# Altium footprint library SNES TST1.PcbLib: 28 footprints (part 1 of 2)
Each footprint in its own frame and in the unit in brackets; x right, y up, seen from the top. Pads: shape width x height; smd on the part's side, far side on the other; paste and mask are expansions set on the pad; w line width, h text height; cw(c..) or ccw(c..) is an arc to the next point about the centre after c.
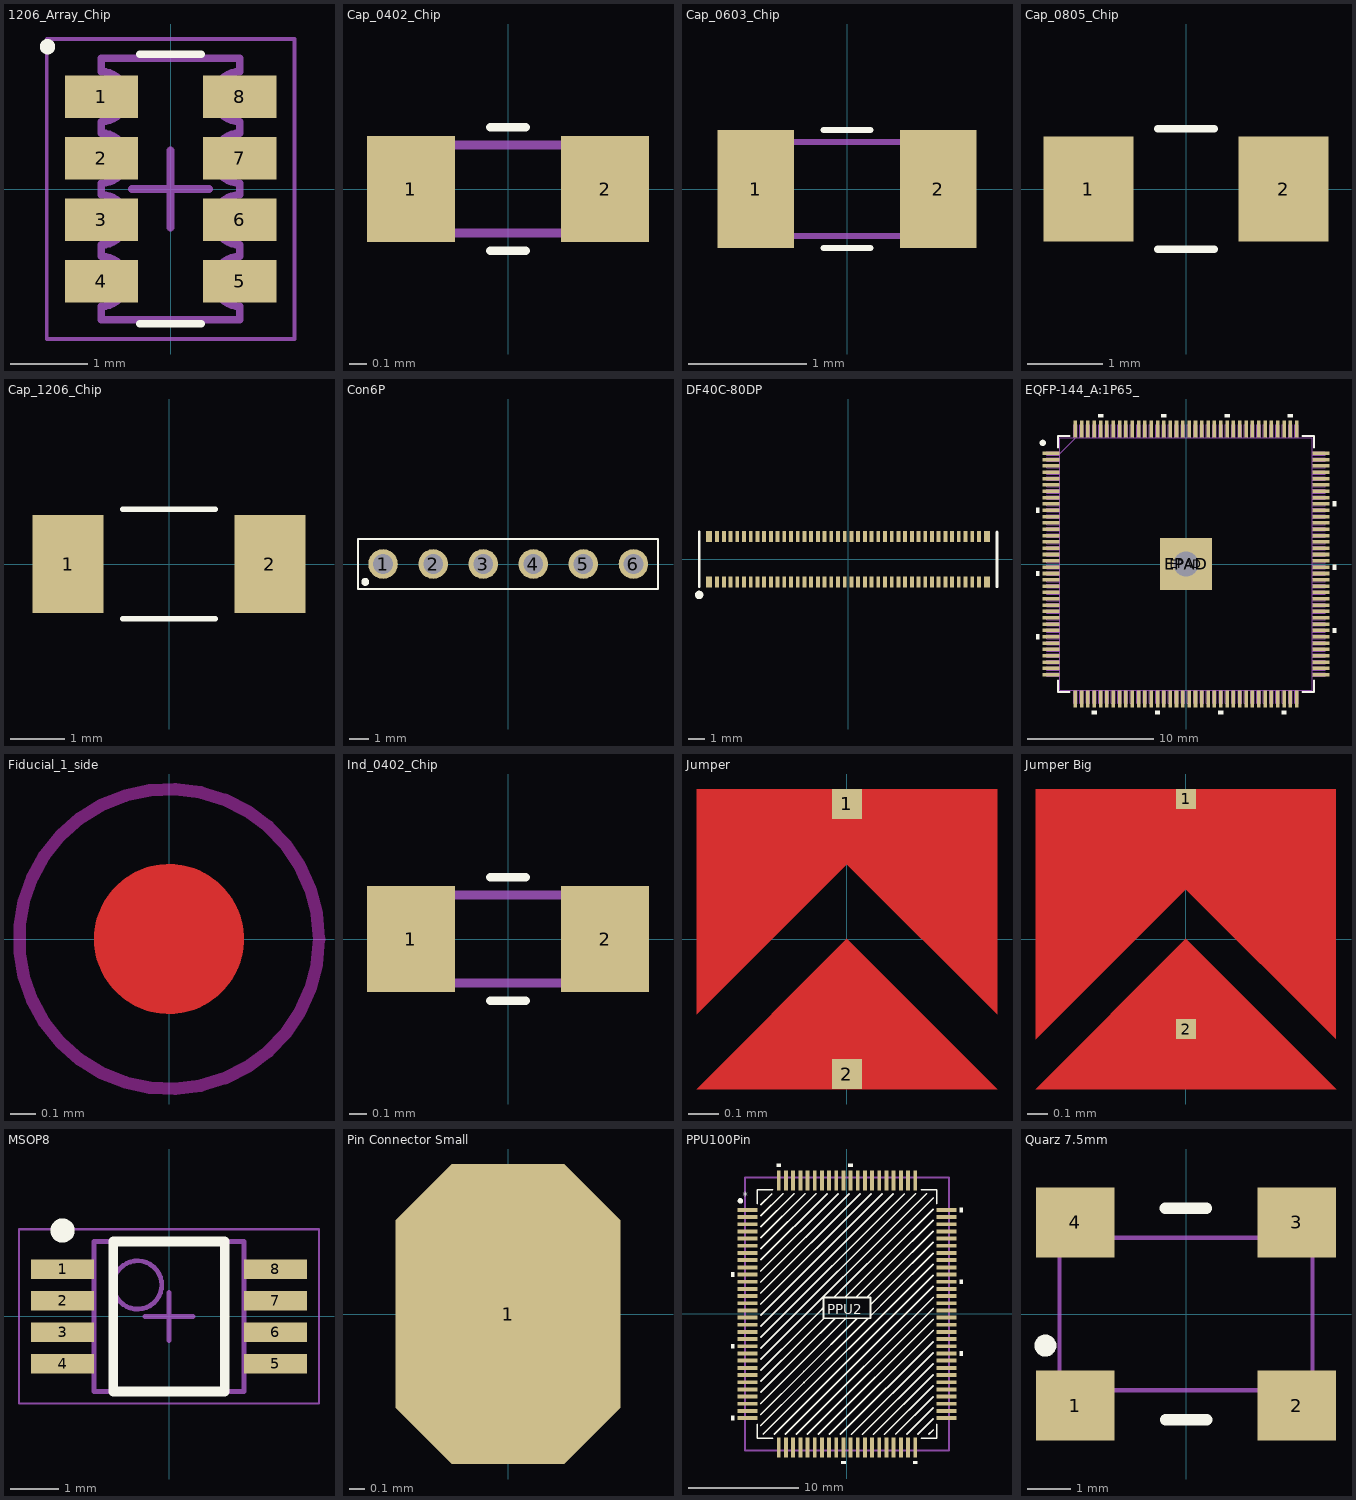
[diagram p0: the footprints below, top view; thin cyan lines are the x and y axes]

## 1206_Array_Chip [mm]
pads (8):
  rect 0.95x0.55 smd: 1(-0.9,1.2) 2(-0.9,0.4) 3(-0.9,-0.4) 4(-0.9,-1.2) 5(0.9,-1.2) 6(0.9,-0.4) 7(0.9,0.4) 8(0.9,1.2)
Top Overlay:
  circle w0.1: c-1.6,1.85 r0.05
  lines w0.1: -0.4,-1.75 0.4,-1.75 ; -0.4,1.75 0.4,1.75
Top Designator:
  text ".Designator" at 2.967,0.2 h0.6
Mechanical 13:
  lines w0.1: -0.9,-1.7 0.9,-1.7 0.9,-1.525 cw(c0.9,-1.2) 0.9,-0.875 0.9,-0.725 cw(c0.9,-0.4) 0.9,-0.075 0.9,0.075 cw(c0.9,0.4) 0.9,0.725 0.9,0.875 cw(c0.9,1.2) 0.9,1.525 0.9,1.7 -0.9,1.7 -0.9,1.525 cw(c-0.9,1.2) -0.9,0.875 -0.9,0.725 cw(c-0.9,0.4) -0.9,0.075 -0.9,-0.075 cw(c-0.9,-0.4) -0.9,-0.725 -0.9,-0.875 cw(c-0.9,-1.2) -0.9,-1.525 -0.9,-1.7
Mechanical 15:
  lines w0.05: -1.61,-1.95 1.61,-1.95 1.61,1.95 -1.61,1.95 -1.61,-1.95
  lines w0.1: -0.5,0 0.5,0 ; 0,-0.5 0,0.5
3D body "1206_Array_Chip.step": height 0.6, standoff 0, extent -0.95,-1.7 0.95,1.7

## Cap_0402_Chip [mm]
pads (2):
  rect 0.5x0.6 smd: 1(-0.55,0) 2(0.55,0)
Top Overlay:
  lines w0.05: -0.1,-0.35 0.1,-0.35 ; -0.1,0.35 0.1,0.35
Top Designator:
  text ".Designator" at 2.999,0.2 h0.6
Mechanical 15:
  lines w0.05: -0.5,-0.25 0.5,-0.25 0.5,0.25 -0.5,0.25 -0.5,-0.25
3D body "CAPC1005X06N.step": height 0.55, standoff 0, extent -0.55,-0.3 0.55,0.3

## Cap_0603_Chip [mm]
pads (2):
  rect 0.65x1 smd: 1(-0.775,0) 2(0.775,0)
Top Overlay:
  lines w0.05: -0.2,-0.5 0.2,-0.5 ; -0.2,0.5 0.2,0.5
Top Designator:
  text ".Designator" at -2.999,-0.2 h0.6
Mechanical 15:
  lines w0.05: -0.8,-0.4 -0.8,0.4 0.8,0.4 0.8,-0.4 -0.8,-0.4
3D body "CAPC1608X09N.step": height 0.9, standoff 0, extent -0.8,-0.475 0.8,0.475

## Cap_0805_Chip [mm]
pads (2):
  rect 1.2x1.4 smd: 1(-1.3,0) 2(1.3,0)
Top Overlay:
  lines w0.1: -0.375,-0.8 0.375,-0.8 ; -0.375,0.8 0.375,0.8
Top Designator:
  text ".Designator" at 2.999,0.2 h0.6
3D body "CAPC2012X14N.step": height 1.35, standoff 0, extent -1.05,-0.675 1.05,0.675

## Cap_1206_Chip [mm]
pads (2):
  rect 1.3x1.8 smd: 1(-1.85,0) 2(1.85,0)
Top Overlay:
  lines w0.1: -0.85,-1 0.85,-1 ; -0.85,1 0.85,1
Top Designator:
  text ".Designator" at 2.999,0.2 h0.6
3D body "CAPC3216X14N.step": height 1.4, standoff 0, extent -1.675,-0.875 1.675,0.875

## Con6P [mm]
pads (6):
  round 1.5 hole 1: 1(-6.35,0) 2(-3.81,0) 3(-1.27,0) 4(1.27,0) 5(3.81,0) 6(6.35,0)
Top Overlay:
  circle w0.2: c-7.255,-0.905 r0.1
  lines w0.1: -7.62,-1.27 7.595,-1.27 7.595,1.27 -7.62,1.27 -7.62,-1.27

## DF40C-80DP [mm]
pads (84):
  rect 0.35x0.66 smd: 0(-8.275,-1.355) 0(-8.275,1.355) 0(8.275,-1.355) 0(8.275,1.355)
  rect 0.23x0.66 smd: 1(-7.8,-1.355) 2(-7.8,1.355) 3(-7.4,-1.355) 4(-7.4,1.355) 5(-7,-1.355) 6(-7,1.355) 7(-6.6,-1.355) 8(-6.6,1.355) 9(-6.2,-1.355) 10(-6.2,1.355) 11(-5.8,-1.355) 12(-5.8,1.355) 13(-5.4,-1.355) 14(-5.4,1.355) 15(-5,-1.355) 16(-5,1.355) 17(-4.6,-1.355) 18(-4.6,1.355) 19(-4.2,-1.355) 20(-4.2,1.355) 21(-3.8,-1.355) 22(-3.8,1.355) 23(-3.4,-1.355) 24(-3.4,1.355) 25(-3,-1.355) 26(-3,1.355) 27(-2.6,-1.355) 28(-2.6,1.355) 29(-2.2,-1.355) 30(-2.2,1.355) 31(-1.8,-1.355) 32(-1.8,1.355) 33(-1.4,-1.355) 34(-1.4,1.355) 35(-1,-1.355) 36(-1,1.355) 37(-0.6,-1.355) 38(-0.6,1.355) 39(-0.2,-1.355) 40(-0.2,1.355) 41(0.2,-1.355) 42(0.2,1.355) 43(0.6,-1.355) 44(0.6,1.355) 45(1,-1.355) 46(1,1.355) 47(1.4,-1.355) 48(1.4,1.355) 49(1.8,-1.355) 50(1.8,1.355) 51(2.2,-1.355) 52(2.2,1.355) 53(2.6,-1.355) 54(2.6,1.355) 55(3,-1.355) 56(3,1.355) 57(3.4,-1.355) 58(3.4,1.355) 59(3.8,-1.355) 60(3.8,1.355) 61(4.2,-1.355) 62(4.2,1.355) 63(4.6,-1.355) 64(4.6,1.355) 65(5,-1.355) 66(5,1.355) 67(5.4,-1.355) 68(5.4,1.355) 69(5.8,-1.355) 70(5.8,1.355) 71(6.2,-1.355) 72(6.2,1.355) 73(6.6,-1.355) 74(6.6,1.355) 75(7,-1.355) 76(7,1.355) 77(7.4,-1.355) 78(7.4,1.355) 79(7.8,-1.355) 80(7.8,1.355)
Top Overlay:
  circle w0.25: c-8.875,-2.125 r0.125
  lines w0.152: -8.875,-1.625 -8.875,1.625 ; 8.875,-1.625 8.875,1.625
Top Designator:
  text ".Designator" at 2.912,-0.12 h0.6
3D body "DF40C-80DP.stp": height 1.09, standoff -0.05, extent -8.76,-1.47 8.76,1.5

## EQFP-144_A:1P65_ [mm]
pads (146):
  rect 1.353x0.279 smd: 1(-10.672,8.75) 2(-10.672,8.25) 3(-10.672,7.75) 4(-10.672,7.25) 5(-10.672,6.75) 6(-10.672,6.25) 7(-10.672,5.75) 8(-10.672,5.25) 9(-10.672,4.75) 10(-10.672,4.25) 11(-10.672,3.75) 12(-10.672,3.25) 13(-10.672,2.75) 14(-10.672,2.25) 15(-10.672,1.75) 16(-10.672,1.25) 17(-10.672,0.75) 18(-10.672,0.25) 19(-10.672,-0.25) 20(-10.672,-0.75) 21(-10.672,-1.25) 22(-10.672,-1.75) 23(-10.672,-2.25) 24(-10.672,-2.75) 25(-10.672,-3.25) 26(-10.672,-3.75) 27(-10.672,-4.25) 28(-10.672,-4.75) 29(-10.672,-5.25) 30(-10.672,-5.75) 31(-10.672,-6.25) 32(-10.672,-6.75) 33(-10.672,-7.25) 34(-10.672,-7.75) 35(-10.672,-8.25) 36(-10.672,-8.75) 73(10.672,-8.75) 74(10.672,-8.25) 75(10.672,-7.75) 76(10.672,-7.25) 77(10.672,-6.75) 78(10.672,-6.25) 79(10.672,-5.75) 80(10.672,-5.25) 81(10.672,-4.75) 82(10.672,-4.25) 83(10.672,-3.75) 84(10.672,-3.25) 85(10.672,-2.75) 86(10.672,-2.25) 87(10.672,-1.75) 88(10.672,-1.25) 89(10.672,-0.75) 90(10.672,-0.25) 91(10.672,0.25) 92(10.672,0.75) 93(10.672,1.25) 94(10.672,1.75) 95(10.672,2.25) 96(10.672,2.75) 97(10.672,3.25) 98(10.672,3.75) 99(10.672,4.25) 100(10.672,4.75) 101(10.672,5.25) 102(10.672,5.75) 103(10.672,6.25) 104(10.672,6.75) 105(10.672,7.25) 106(10.672,7.75) 107(10.672,8.25) 108(10.672,8.75)
  rect 0.279x1.353 smd: 37(-8.75,-10.672) 38(-8.25,-10.672) 39(-7.75,-10.672) 40(-7.25,-10.672) 41(-6.75,-10.672) 42(-6.25,-10.672) 43(-5.75,-10.672) 44(-5.25,-10.672) 45(-4.75,-10.672) 46(-4.25,-10.672) 47(-3.75,-10.672) 48(-3.25,-10.672) 49(-2.75,-10.672) 50(-2.25,-10.672) 51(-1.75,-10.672) 52(-1.25,-10.672) 53(-0.75,-10.672) 54(-0.25,-10.672) 55(0.25,-10.672) 56(0.75,-10.672) 57(1.25,-10.672) 58(1.75,-10.672) 59(2.25,-10.672) 60(2.75,-10.672) 61(3.25,-10.672) 62(3.75,-10.672) 63(4.25,-10.672) 64(4.75,-10.672) 65(5.25,-10.672) 66(5.75,-10.672) 67(6.25,-10.672) 68(6.75,-10.672) 69(7.25,-10.672) 70(7.75,-10.672) 71(8.25,-10.672) 72(8.75,-10.672) 109(8.75,10.672) 110(8.25,10.672) 111(7.75,10.672) 112(7.25,10.672) 113(6.75,10.672) 114(6.25,10.672) 115(5.75,10.672) 116(5.25,10.672) 117(4.75,10.672) 118(4.25,10.672) 119(3.75,10.672) 120(3.25,10.672) 121(2.75,10.672) 122(2.25,10.672) 123(1.75,10.672) 124(1.25,10.672) 125(0.75,10.672) 126(0.25,10.672) 127(-0.25,10.672) 128(-0.75,10.672) 129(-1.25,10.672) 130(-1.75,10.672) 131(-2.25,10.672) 132(-2.75,10.672) 133(-3.25,10.672) 134(-3.75,10.672) 135(-4.25,10.672) 136(-4.75,10.672) 137(-5.25,10.672) 138(-5.75,10.672) 139(-6.25,10.672) 140(-6.75,10.672) 141(-7.25,10.672) 142(-7.75,10.672) 143(-8.25,10.672) 144(-8.75,10.672)
  rect 4.14x4.14 smd: EPAD(0,0)
  round 3 hole 2: EPAD(0,0)
Top Overlay:
  circle w0.25: c-11.325,9.575 r0.125
  region: 11.602,4.941 11.856,4.941 11.856,4.56 11.602,4.56
  region: 8.441,11.602 8.06,11.602 8.06,11.856 8.441,11.856
  region: 3.441,11.602 3.06,11.602 3.06,11.856 3.441,11.856
  region: 11.602,-0.059 11.856,-0.059 11.856,-0.44 11.602,-0.44
  region: 11.602,-5.059 11.856,-5.059 11.856,-5.44 11.602,-5.44
  region: 7.94,-11.602 7.559,-11.602 7.559,-11.856 7.94,-11.856
  region: 2.94,-11.602 2.559,-11.602 2.559,-11.856 2.94,-11.856
  region: -1.559,11.602 -1.94,11.602 -1.94,11.856 -1.559,11.856
  region: -6.559,11.602 -6.94,11.602 -6.94,11.856 -6.559,11.856
  region: -11.602,4.44 -11.856,4.44 -11.856,4.059 -11.602,4.059
  region: -2.06,-11.602 -2.441,-11.602 -2.441,-11.856 -2.06,-11.856
  region: -7.06,-11.602 -7.441,-11.602 -7.441,-11.856 -7.06,-11.856
  region: -11.602,-0.56 -11.856,-0.56 -11.856,-0.941 -11.602,-0.941
  region: -11.602,-5.56 -11.856,-5.56 -11.856,-5.941 -11.602,-5.941
  lines w0.152: -10.122,-9.222 -10.122,-10.122 -9.222,-10.122 ; -10.122,9.222 -10.122,10.122 -9.222,10.122 ; 9.222,-10.122 10.122,-10.122 10.122,-9.222 ; 9.222,10.122 10.122,10.122 10.122,9.222
Top Paste:
  region: 1.97,1.97 0.79,1.97 0.79,0.79 1.97,0.79
  region: 1.97,-0.79 0.79,-0.79 0.79,-1.97 1.97,-1.97
  region: 1.97,0.59 0.79,0.59 0.79,-0.59 1.97,-0.59
  region: 0.59,1.97 -0.59,1.97 -0.59,0.79 0.59,0.79
  region: -0.79,1.97 -1.97,1.97 -1.97,0.79 -0.79,0.79
  region: 0.59,0.59 -0.59,0.59 -0.59,-0.59 0.59,-0.59
  region: -0.79,-0.79 -1.97,-0.79 -1.97,-1.97 -0.79,-1.97
  region: 0.59,-0.79 -0.59,-0.79 -0.59,-1.97 0.59,-1.97
  region: -0.79,0.59 -1.97,0.59 -1.97,-0.59 -0.79,-0.59
Top Designator:
  text ".Designator" at -2.999,-0.2 h0.6
Mechanical 13:
  drawing of 581 lines, arcs and shapes, not listed
  text "*" at -9.931,8.365 h1.27
3D body: height 0.25, standoff 0, extent 0,0 0.254,0.254
3D body "EQFP-144_A1P65_D24P00_INT-M.step": height 1.65, standoff 0, extent -10.998,-10.998 10.998,10.998

## Fiducial_1_side [mm]
Top Layer:
  circle w0.3: c0,0 r0.15
Top Layer keep-out:
  circle w0.05: c0,0 r0.6

## Ind_0402_Chip [mm]
pads (2):
  rect 0.5x0.6 smd: 1(-0.55,0) 2(0.55,0)
Top Overlay:
  lines w0.05: -0.1,-0.35 0.1,-0.35 ; -0.1,0.35 0.1,0.35
Top Designator:
  text ".Designator" at -2.999,-0.2 h0.6
Mechanical 15:
  lines w0.05: -0.5,-0.25 0.5,-0.25 0.5,0.25 -0.5,0.25 -0.5,-0.25
3D body "INDC1005X06N.step": height 0.55, standoff 0, extent -0.55,-0.3 0.55,0.3

## Jumper [mm]
pads (2):
  rect 0.1x0.1 smd: 1(0,0.45) 2(0,-0.45)
Top Layer:
  region: -0.5,-0.25 -0.5,0.5 0.5,0.5 0.5,-0.25 0,0.25
  region: -0.5,-0.5 0.5,-0.5 0,0
Top Designator:
  text ".Designator" at 2.999,0.2 h0.6

## Jumper Big [mm]
pads (2):
  rect 0.1x0.1 smd: 1(0,0.7) 2(0,-0.45)
Top Layer:
  region: -0.75,-0.5 -0.75,0.75 0.75,0.75 0.75,-0.5 0,0.25
  region: -0.75,-0.75 0.75,-0.75 0,0
Top Designator:
  text ".Designator" at -2.999,-0.175 h0.6

## MSOP8 [mm]
pads (8):
  rect 1.3x0.4 smd: 1(-2.2,0.975) 2(-2.2,0.325) 3(-2.2,-0.325) 4(-2.2,-0.975) 5(2.2,-0.975) 6(2.2,-0.325) 7(2.2,0.325) 8(2.2,0.975)
Top Overlay:
  circle w0.25: c-2.2,1.775 r0.125
  lines w0.2: -1.15,-1.55 1.15,-1.55 1.15,1.55 -1.15,1.55 -1.15,-1.55
Top Designator:
  text ".Designator" at -2.999,-0.1 h0.6
Mechanical 13:
  circle w0.1: c-0.65,0.65 r0.5
  lines w0.1: -1.55,-1.55 1.55,-1.55 1.55,1.55 -1.55,1.55 -1.55,-1.55
Mechanical 15:
  lines w0.05: -3.1,-1.8 3.1,-1.8 3.1,1.8 -3.1,1.8 -3.1,-1.8
  lines w0.1: -0.5,0 0.5,0 ; 0,-0.5 0,0.5
3D body "MSOP8.step": height 1.07, standoff 0, extent -2.44,-1.55 2.44,1.55

## Pin Connector Small [mm]
pads (1):
  oct 1.5x2 smd: 1(0,0)

## PPU100Pin [mm]
pads (100):
  rect 1.8x0.35 smd: 1(-9,9.425) 2(-9,8.775) 3(-9,8.125) 4(-9,7.475) 5(-9,6.825) 6(-9,6.175) 7(-9,5.525) 8(-9,4.875) 9(-9,4.225) 10(-9,3.575) 11(-9,2.925) 12(-9,2.275) 13(-9,1.625) 14(-9,0.975) 15(-9,0.325) 16(-9,-0.325) 17(-9,-0.975) 18(-9,-1.625) 19(-9,-2.275) 20(-9,-2.925) 21(-9,-3.575) 22(-9,-4.225) 23(-9,-4.875) 24(-9,-5.525) 25(-9,-6.175) 26(-9,-6.825) 27(-9,-7.475) 28(-9,-8.125) 29(-9,-8.775) 30(-9,-9.425) 51(9,-9.425) 52(9,-8.775) 53(9,-8.125) 54(9,-7.475) 55(9,-6.825) 56(9,-6.175) 57(9,-5.525) 58(9,-4.875) 59(9,-4.225) 60(9,-3.575) 61(9,-2.925) 62(9,-2.275) 63(9,-1.625) 64(9,-0.975) 65(9,-0.325) 66(9,0.325) 67(9,0.975) 68(9,1.625) 69(9,2.275) 70(9,2.925) 71(9,3.575) 72(9,4.225) 73(9,4.875) 74(9,5.525) 75(9,6.175) 76(9,6.825) 77(9,7.475) 78(9,8.125) 79(9,8.775) 80(9,9.425)
  rect 0.35x1.8 smd: 31(-6.175,-12.1) 32(-5.525,-12.1) 33(-4.875,-12.1) 34(-4.225,-12.1) 35(-3.575,-12.1) 36(-2.925,-12.1) 37(-2.275,-12.1) 38(-1.625,-12.1) 39(-0.975,-12.1) 40(-0.325,-12.1) 41(0.325,-12.1) 42(0.975,-12.1) 43(1.625,-12.1) 44(2.275,-12.1) 45(2.925,-12.1) 46(3.575,-12.1) 47(4.225,-12.1) 48(4.875,-12.1) 49(5.525,-12.1) 50(6.175,-12.1) 81(6.175,12.1) 82(5.525,12.1) 83(4.875,12.1) 84(4.225,12.1) 85(3.575,12.1) 86(2.925,12.1) 87(2.275,12.1) 88(1.625,12.1) 89(0.975,12.1) 90(0.325,12.1) 91(-0.325,12.1) 92(-0.975,12.1) 93(-1.625,12.1) 94(-2.275,12.1) 95(-2.925,12.1) 96(-3.575,12.1) 97(-4.225,12.1) 98(-4.875,12.1) 99(-5.525,12.1) 100(-6.175,12.1)
Top Overlay:
  circle w0.25: c-9.653,10.25 r0.125
  region: -10.231,3.765 -10.485,3.765 -10.485,3.384 -10.231,3.384
  region: -10.231,-2.735 -10.485,-2.735 -10.485,-3.116 -10.231,-3.116
  region: -10.231,-9.235 -10.485,-9.235 -10.485,-9.616 -10.231,-9.616
  region: -0.515,-13.331 -0.515,-13.585 -0.134,-13.585 -0.134,-13.331
  region: 5.985,-13.331 5.985,-13.585 6.366,-13.585 6.366,-13.331
  region: 10.231,-3.765 10.485,-3.765 10.485,-3.384 10.231,-3.384
  region: 10.231,2.735 10.485,2.735 10.485,3.116 10.231,3.116
  region: 10.231,9.235 10.485,9.235 10.485,9.616 10.231,9.616
  region: 0.515,13.331 0.515,13.585 0.134,13.585 0.134,13.331
  region: -5.985,13.331 -5.985,13.585 -6.366,13.585 -6.366,13.331
  lines w0.1: -6.875,11.25 -6.75,11.25
  lines w0.15: -8.125,-10 -8.125,-11.25 -6.75,-11.25 ; -8.125,10 -8.125,11.25 -6.75,11.25 ; -7.8,-10.1 -3.9,-6.2 0.1,-2.2 ; -7.8,-9.1 -3.9,-5.2 0.925,-0.375 ; -7.8,-8.1 -3.9,-4.2 -0.1,-0.4 ; -7.8,-7.1 -3.9,-3.2 -1.075,-0.375 ; -7.8,-6.1 -3.9,-2.2 -2.075,-0.375 ; -7.8,-5.1 -3.9,-1.2 -2.725,-0.025 -2.4,0.3 -2.4,0.3 -2.137,0.563 ; -7.8,-4.1 7.2,10.9 ; -7.8,-3.1 6.2,10.9 ; -7.8,-2.1 5.2,10.9 ; -7.8,-1.1 4.2,10.9 ; -7.8,-0.1 3.2,10.9 ; -7.8,0.9 2.2,10.9 ; -7.8,1.9 1.2,10.9 ; -7.8,2.9 0.2,10.9 ; -7.8,3.9 -0.8,10.9 ; -7.8,4.9 -1.8,10.9 ; -7.8,5.9 -2.8,10.9 ; -7.8,6.9 -3.8,10.9 ; -7.8,7.9 -4.8,10.9 ; -7.8,8.9 -5.8,10.9 ; -7.8,9.9 -6.8,10.9 ; -7.6,-10.9 7.8,4.5 ; -6.6,-10.9 7.8,3.5 ; -5.6,-10.9 7.8,2.5 ; -4.6,-10.9 7.8,1.5 ; -3.6,-10.9 7.8,0.5 ; -2.6,-10.9 7.8,-0.5 ; -1.6,-10.9 7.8,-1.5 ; -1.175,1.525 -0.1,2.6 ; -0.6,-10.9 7.8,-2.5 ; -0.2,1.5 3.9,5.6 7.8,9.5 ; 0.4,-10.9 7.8,-3.5 ; 0.8,1.5 3.9,4.6 7.8,8.5 ; 1.4,-10.9 7.8,-4.5 ; 1.813,1.513 3.9,3.6 7.8,7.5 ; 1.925,-0.375 0.1,-2.2 ; 2.125,-0.175 3.9,1.6 7.8,5.5 ; 2.125,0.825 3.9,2.6 7.8,6.5 ; 2.4,-10.9 7.8,-5.5 ; 3.4,-10.9 7.8,-6.5 ; 4.4,-10.9 7.8,-7.5 ; 5.4,-10.9 7.8,-8.5 ; 6.4,-10.9 7.8,-9.5 ; 6.75,-11.25 8.125,-11.25 8.125,-10 ; 6.75,11.25 8.125,11.25 8.125,10 ; 7.4,-10.9 7.8,-10.5 ; 7.8,10.5 3.9,6.6 -0.1,2.6 ; -0.1,2.6 -0.1,2.6 ; 0.1,-2.2 0.1,-2.2 ; -2.125,-0.375 2.125,-0.375 2.125,1.5 -2.125,1.5 -2.125,-0.375
  text "*" at -9.449,10.4 h0.7
  text "PPU2" at -1.799,0 h0.9
Mechanical 13:
  lines w0.2: -9.25,-12.375 -9.25,12.375 9.25,12.375 9.25,-9.425 9.25,-12.375 -9.25,-12.375
3D body "QFP65P1895X2495X282-100N.step": height 2.82, standoff 0, extent -9.475,-12.475 9.475,12.475

## Quarz 7.5mm [mm]
pads (4):
  rect 1.8x1.6 smd: 1(-2.54,-2.1) 2(2.54,-2.1) 3(2.54,2.1) 4(-2.54,2.1)
Top Overlay:
  circle w0.254: c-3.225,-0.725 r0.125
  lines w0.254: -0.475,-2.425 0.475,-2.425 ; -0.475,2.425 0.475,2.425
Top Designator:
  text ".Designator" at -2.999,-0.2 h0.6
Mechanical 15:
  lines w0.1: -2.9,-1.75 -2.9,1.75 2.9,1.75 2.9,-1.75 -2.9,-1.75
3D body "User Library-CFPS-73.step": height 1.52, standoff 0, extent -3.5,-2.51 3.5,2.51